# Altium schematic symbol library INA592ID.SchLib: 1 symbol
Pins are listed as number, name and electrical type; pins without a type are passive.

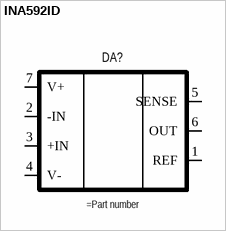
[diagram p0: symbol INA592ID]

## INA592ID
designator DA?
High-Precision, Wide-Bandwidth e-trim™ Difference Amplifier
pins: 1 REF, 2 -IN, 3 +IN, 4 V-, 5 SENSE, 6 OUT, 7 V+